# EAGLE library part DAC7611 (library DC Load)
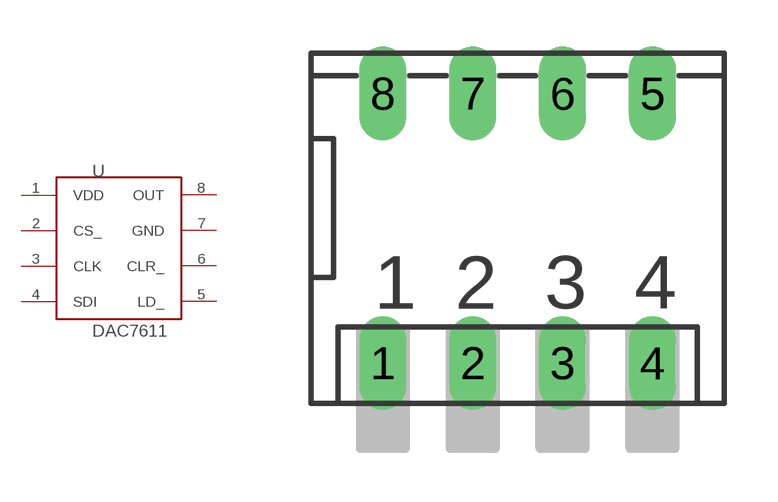
[diagram p0: symbol with the pads of DP-04; footprint DP-04]

Designator prefix -

## DAC7611DIP  [DP-04]
1  VDD  pwr
2  CS_
3  CLK
4  SDI
5  LD_
6  CLR_
7  GND
8  OUT  out

## Footprint DP-04 (pad centres in mm)
DIL/CODE SWITCH distributor Buerklin, 17G570
drill 0.813 long: 1 -3.81,-3.81; 2 -1.27,-3.81; 3 1.27,-3.81; 4 3.81,-3.81; 5 3.81,3.81; 6 1.27,3.81; 7 -1.27,3.81; 8 -3.81,3.81